# EAGLE library part 43045-12_S (library con-molex-micro-fit)
HEADER
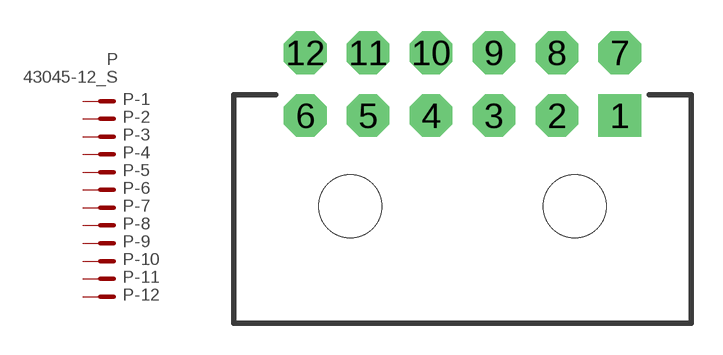
[diagram p13: symbol with the pads of 43045-12; footprint 43045-12]

Designator prefix P; gates -1=P-NV -2=P-N -3=P-N -4=P-N -5=P-N -6=P-N -7=P-N -8=P-N -9=P-N -10=P-N -11=P-N -12=P-N

## 43045-12_S  [43045-12]
1  -1:P  pas
2  -2:P  pas
3  -3:P  pas
4  -4:P  pas
5  -5:P  pas
6  -6:P  pas
7  -7:P  pas
8  -8:P  pas
9  -9:P  pas
10  -10:P  pas
11  -11:P  pas
12  -12:P  pas

## Footprint 43045-12 (pad centres in mm)
HEADER
drill 1.016 pad 2.032 square: 1 7.5,0
drill 1.016 pad 2.032 octagon: 2 4.5,0; 3 1.5,0; 4 -1.5,0; 5 -4.5,0; 6 -7.5,0; 7 7.5,3; 8 4.5,3; 9 1.5,3; 10 -1.5,3; 11 -4.5,3; 12 -7.5,3
hole 3 at -5.35,-4.32
hole 3 at 5.35,-4.32